# Altium footprint library text justification test 2.PcbLib: 8 footprints
Each footprint in its own frame and in the unit in brackets; x right, y up, seen from the top. Pads: shape width x height; smd on the part's side, far side on the other; paste and mask are expansions set on the pad; w line width, h text height; cw(c..) or ccw(c..) is an arc to the next point about the centre after c.

## PCBComponent_1 [mm]
Mechanical 1:
  text "1" at -0.083,-0.25 h0.5

## PCBComponent_2 [mm]
Mechanical 1:
  text "1" at 0.1,0.1 h0.5

## PCBComponent_3 [mm]
Mechanical 1:
  text "1" at 0.1,-0.6 h0.5

## PCBComponent_4 [mm]
Mechanical 1:
  text "1" at -0.083,0.1 h0.5

## PCBComponent_5 [mm]
Mechanical 1:
  text "1" at -0.083,-0.6 h0.5

## PCBComponent_6 [mm]
Mechanical 1:
  text "1" at 0.1,-0.25 h0.5

## PCBComponent_7 [mm]
Mechanical 1:
  text "1" at -0.267,-0.25 h0.5

## PCBComponent_8 [mm]
Mechanical 1:
  text "1" at -0.21,-0.504 h0.5